# Altium schematic symbol library Connectors.SchLib: 1 symbol
Pins are listed as number, name and electrical type; pins without a type are passive.

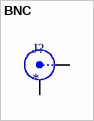
[diagram p0: symbol BNC]

## BNC
designator J?
pins: 1 X, 2 Y